# Altium schematic symbol library BM04B-GVHS-TB_LF__SN_.SchLib: 1 symbol
Pins are listed as number, name and electrical type; pins without a type are passive.

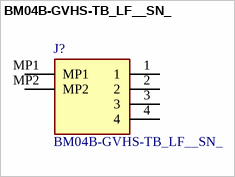
[diagram p0: symbol BM04B-GVHS-TB_LF__SN_]

## BM04B-GVHS-TB_LF__SN_
designator J?
CONN HEADER SMD 4POS 1.25MM; Manufacturer_Name: JST (JAPAN SOLDERLESS TERMINALS); Manufacturer_Part_Number: BM04B-GVHS-TB(LF)(SN); Geometry.Height: 4.05mm; Mouser Part Number: *; Mouser Price/Stock: *; Arrow Part Number: BM04B-GVHS-TB(LF)(SN); Arrow Price/Stock: https://www.arrow.com/en/products/bm04b-gvhs-tb-lf-sn/jst-manufacturing?utm_currency=USD&region=europe; Datasheet Link: http://www.jst-mfg.com/product/pdf/eng/eGVH.pdf
footprint BM04BGVHSTBLFSN
pins: 1, 2, 3, 4, MP1, MP2